# Altium integrated library Linear Technology Operational Amplifiers (LT1000).IntLib: 2280 symbols (part 66 of 79)
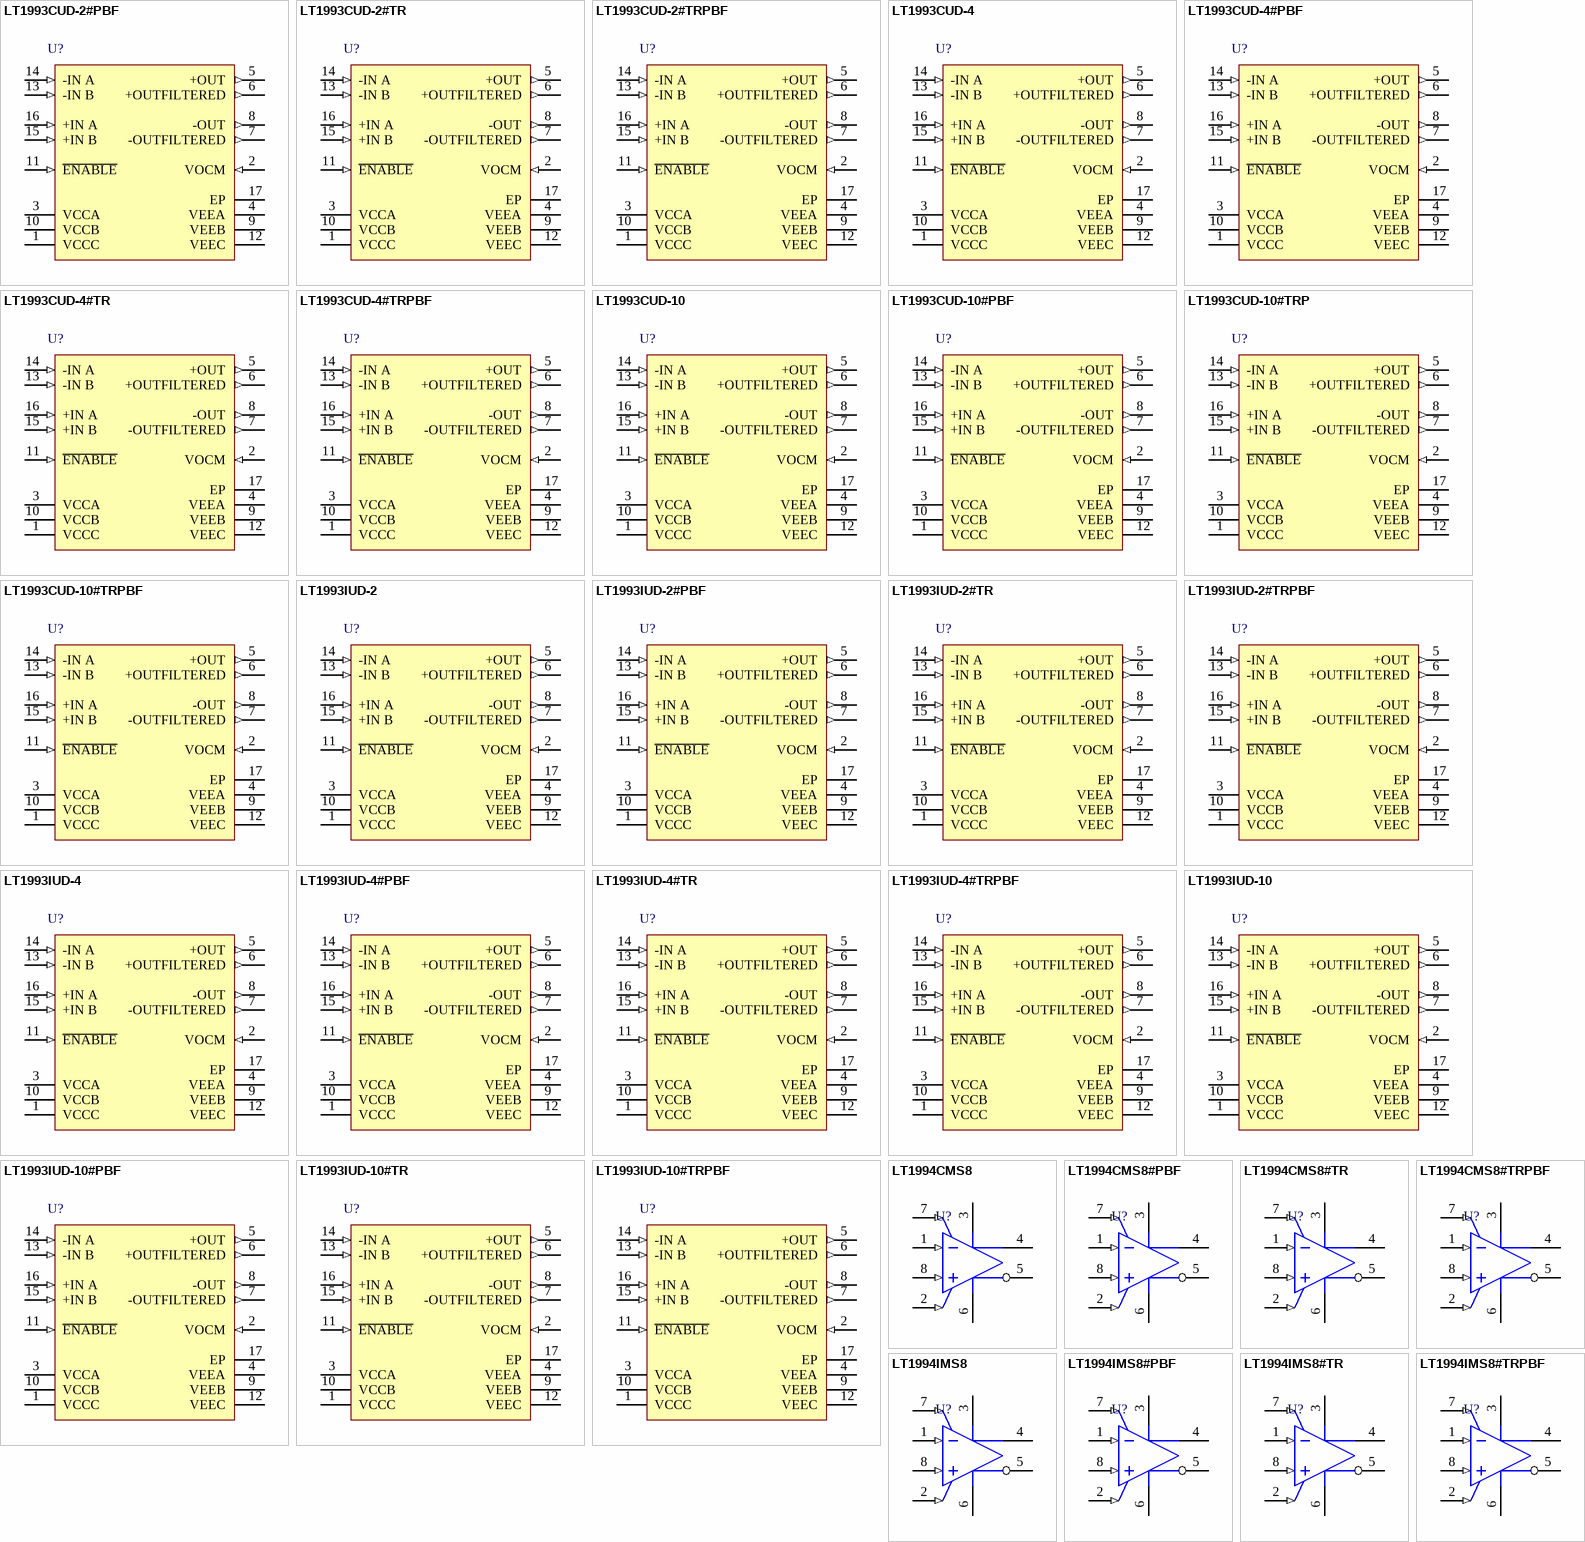
[diagram p170: symbols LT1993CUD-2#PBF to LT1994IMS8#TRPBF]

## LT1993CUD-2#TR
designator U?
Single Channel, Low Distortion, Low Noise Differential Amplifier/ADC Driver, AV = 2, 800 MHz Typical GBW, 1100 V/us Typical SR, 4 to 5.5 V, 16-Pin QFN (UD-16), Commercial, Reel; Linear Technology Part Number: LT1993-2; Manufacturer: Linear Technology; PartNumber: LT1993CUD-2#TR; Channels (#): 1; GBW (MHz) Typical: 800; Is (mA) Typical: 100; SR (V/us) Typical: 1100; Vos (mV) Guaranteed: 6.5; Vs Max (V): 5.5; Vs Min (V): 4; DatasheetVersion: Rev. B; PackageReference: LT-UD-16; PackageDescription: 16-Lead Plastic QFN, Body 3.00 x 3.00 mm, Pitch 0.5 mm; Supplier 1: Newark; Supplier Part Number 1: 57M7716; Packing: Reel; Type: DIFF; Vos (mV) Typical: 1; Mounting Technology: Surface Mount; Code_JEDEC: MO-220; ComponentLink1Description: Manufacturer URL; ComponentLink1URL: http://www.linear.com/; ComponentLink2Description: Datasheet; ComponentLink2URL: http://cds.linear.com/docs/en/datasheet/199310fb.pdf; ComponentLink3Description: Package Specification; ComponentLink3URL: http://cds.linear.com/docs/en/packaging/QFN_16_05-08-1691.pdf
footprint LT-UD-16_N (QFN, 16-Leads, Body 3x3mm, Pitch 0.5mm, Thermal Pad 1.45x1.45mm, IPC Medium Density)
footprint LT-UD-16_L (QFN, 16-Leads, Body 3x3mm, Pitch 0.5mm, Thermal Pad 1.45x1.45mm, IPC High Density)
footprint LT-UD-16_M (QFN, 16-Leads, Body 3x3mm, Pitch 0.5mm, Thermal Pad 1.45x1.45mm, IPC Low Density)
pins: 1 VCCC (power) "Positive Power Supply (Normally Tied to 5V). All three pins must be tied to the same voltage. Bypass each pin with 1000pF and 0.1uF capacitors as close to the package as possible. Split supplies are possible as long as the (See Datasheet)", 2 VOCM (in) "This pin sets the output common mode voltage. Without additional biasing, both inputs bias to this voltage as well. This input is high impedance.", 3 VCCA (power) "Positive Power Supply (Normally Tied to 5V). All three pins must be tied to the same voltage. Bypass each pin with 1000pF and 0.1uF capacitors as close to the package as possible. Split supplies are possible as long as the (See Datasheet)", 4 VEEA (power) "Negative Power Supply (Normally Tied to Ground). All three pins must be tied to the same voltage. Split supplies are possible as long as the voltage between VCC and VEE is 5V. If these pins are not tied to ground, bypass (See Datasheet)", 5 +OUT (out) "Outputs (Unfi ltered). These pins are high bandwidth, low-impedance outputs. The DC output voltage at these pins is set to the voltage applied at VOCM.", 6 +OUTFILTERED (out) "Filtered Outputs. These pins add a series 25ohm resistor from the unfi ltered outputs and three 12pF capacitors. Each output has 12pF to VEE, plus an additional 12pF between each pin (See the Block Diagram). This fi lter has (See Datasheet)", 7 -OUTFILTERED (out) "Filtered Outputs. These pins add a series 25ohm resistor from the unfi ltered outputs and three 12pF capacitors. Each output has 12pF to VEE, plus an additional 12pF between each pin (See the Block Diagram). This fi lter has (See Datasheet)", 8 -OUT (out) "Outputs (Unfi ltered). These pins are high bandwidth, low-impedance outputs. The DC output voltage at these pins is set to the voltage applied at VOCM.", 9 VEEB (power) "Negative Power Supply (Normally Tied to Ground). All three pins must be tied to the same voltage. Split supplies are possible as long as the voltage between VCC and VEE is 5V. If these pins are not tied to ground, bypass (See Datasheet)", 10 VCCB (power) "Positive Power Supply (Normally Tied to 5V). All three pins must be tied to the same voltage. Bypass each pin with 1000pF and 0.1uF capacitors as close to the package as possible. Split supplies are possible as long as the (See Datasheet)", 11 ~{ENABLE} (in) "This pin is a TTL logic input referenced to the VEEC pin. If low, the LT1993-10 is enabled and draws typically 100mA of supply current. If high, the LT1993-10 is disabled and draws typically 250uA.", 12 VEEC (power) "Negative Power Supply (Normally Tied to Ground). All three pins must be tied to the same voltage. Split supplies are possible as long as the voltage between VCC and VEE is 5V. If these pins are not tied to ground, bypass (See Datasheet)", 13 -IN B (in) "Negative Inputs. These pins are normally tied together. These inputs may be DC- or ACcoupled. If the inputs are AC-coupled, they will self-bias to the voltage applied to the VOCM pin.", 14 -IN A (in) "Negative Inputs. These pins are normally tied together. These inputs may be DC- or ACcoupled. If the inputs are AC-coupled, they will self-bias to the voltage applied to the VOCM pin.", 15 +IN B (in) "Positive Inputs. These pins are normally tied together. These inputs may be DC- or ACcoupled. If the inputs are AC-coupled, they will self-bias to the voltage applied to the VOCM pin.", 16 +IN A (in) "Positive Inputs. These pins are normally tied together. These inputs may be DC- or ACcoupled. If the inputs are AC-coupled, they will self-bias to the voltage applied to the VOCM pin.", 17 EP (power) "Tie the pad to VEEC (Pin 12). If split supplies are used, DO NOT tie the pad to ground."

## LT1993CUD-2#TRPBF
designator U?
Single Channel, Low Distortion, Low Noise Differential Amplifier/ADC Driver, AV = 2, 800 MHz Typical GBW, 1100 V/us Typical SR, 4 to 5.5 V, 16-Pin QFN (UD-16), Commercial, Pb-Free, Reel; Linear Technology Part Number: LT1993-2; Manufacturer: Linear Technology; PartNumber: LT1993CUD-2#TRPBF; Channels (#): 1; GBW (MHz) Typical: 800; Is (mA) Typical: 100; SR (V/us) Typical: 1100; Vos (mV) Guaranteed: 6.5; Vs Max (V): 5.5; Vs Min (V): 4; DatasheetVersion: Rev. B; PackageReference: LT-UD-16; PackageDescription: 16-Lead Plastic QFN, Body 3.00 x 3.00 mm, Pitch 0.5 mm; Supplier 1: Digi-Key; Supplier Part Number 1: LT1993CUD-2#TRPBF-ND; Supplier 2: Newark; Supplier Part Number 2: 57M7717; Packing: Reel; RoHS: Pb-Free; Type: DIFF; Vos (mV) Typical: 1; Mounting Technology: Surface Mount; Code_JEDEC: MO-220; ComponentLink1Description: Manufacturer URL; ComponentLink1URL: http://www.linear.com/; ComponentLink2Description: Datasheet; ComponentLink2URL: http://cds.linear.com/docs/en/datasheet/199310fb.pdf; ComponentLink3Description: Package Specification; ComponentLink3URL: http://cds.linear.com/docs/en/packaging/QFN_16_05-08-1691.pdf
footprint LT-UD-16_N (QFN, 16-Leads, Body 3x3mm, Pitch 0.5mm, Thermal Pad 1.45x1.45mm, IPC Medium Density)
footprint LT-UD-16_L (QFN, 16-Leads, Body 3x3mm, Pitch 0.5mm, Thermal Pad 1.45x1.45mm, IPC High Density)
footprint LT-UD-16_M (QFN, 16-Leads, Body 3x3mm, Pitch 0.5mm, Thermal Pad 1.45x1.45mm, IPC Low Density)
pins: 1 VCCC (power) "Positive Power Supply (Normally Tied to 5V). All three pins must be tied to the same voltage. Bypass each pin with 1000pF and 0.1uF capacitors as close to the package as possible. Split supplies are possible as long as the (See Datasheet)", 2 VOCM (in) "This pin sets the output common mode voltage. Without additional biasing, both inputs bias to this voltage as well. This input is high impedance.", 3 VCCA (power) "Positive Power Supply (Normally Tied to 5V). All three pins must be tied to the same voltage. Bypass each pin with 1000pF and 0.1uF capacitors as close to the package as possible. Split supplies are possible as long as the (See Datasheet)", 4 VEEA (power) "Negative Power Supply (Normally Tied to Ground). All three pins must be tied to the same voltage. Split supplies are possible as long as the voltage between VCC and VEE is 5V. If these pins are not tied to ground, bypass (See Datasheet)", 5 +OUT (out) "Outputs (Unfi ltered). These pins are high bandwidth, low-impedance outputs. The DC output voltage at these pins is set to the voltage applied at VOCM.", 6 +OUTFILTERED (out) "Filtered Outputs. These pins add a series 25ohm resistor from the unfi ltered outputs and three 12pF capacitors. Each output has 12pF to VEE, plus an additional 12pF between each pin (See the Block Diagram). This fi lter has (See Datasheet)", 7 -OUTFILTERED (out) "Filtered Outputs. These pins add a series 25ohm resistor from the unfi ltered outputs and three 12pF capacitors. Each output has 12pF to VEE, plus an additional 12pF between each pin (See the Block Diagram). This fi lter has (See Datasheet)", 8 -OUT (out) "Outputs (Unfi ltered). These pins are high bandwidth, low-impedance outputs. The DC output voltage at these pins is set to the voltage applied at VOCM.", 9 VEEB (power) "Negative Power Supply (Normally Tied to Ground). All three pins must be tied to the same voltage. Split supplies are possible as long as the voltage between VCC and VEE is 5V. If these pins are not tied to ground, bypass (See Datasheet)", 10 VCCB (power) "Positive Power Supply (Normally Tied to 5V). All three pins must be tied to the same voltage. Bypass each pin with 1000pF and 0.1uF capacitors as close to the package as possible. Split supplies are possible as long as the (See Datasheet)", 11 ~{ENABLE} (in) "This pin is a TTL logic input referenced to the VEEC pin. If low, the LT1993-10 is enabled and draws typically 100mA of supply current. If high, the LT1993-10 is disabled and draws typically 250uA.", 12 VEEC (power) "Negative Power Supply (Normally Tied to Ground). All three pins must be tied to the same voltage. Split supplies are possible as long as the voltage between VCC and VEE is 5V. If these pins are not tied to ground, bypass (See Datasheet)", 13 -IN B (in) "Negative Inputs. These pins are normally tied together. These inputs may be DC- or ACcoupled. If the inputs are AC-coupled, they will self-bias to the voltage applied to the VOCM pin.", 14 -IN A (in) "Negative Inputs. These pins are normally tied together. These inputs may be DC- or ACcoupled. If the inputs are AC-coupled, they will self-bias to the voltage applied to the VOCM pin.", 15 +IN B (in) "Positive Inputs. These pins are normally tied together. These inputs may be DC- or ACcoupled. If the inputs are AC-coupled, they will self-bias to the voltage applied to the VOCM pin.", 16 +IN A (in) "Positive Inputs. These pins are normally tied together. These inputs may be DC- or ACcoupled. If the inputs are AC-coupled, they will self-bias to the voltage applied to the VOCM pin.", 17 EP (power) "Tie the pad to VEEC (Pin 12). If split supplies are used, DO NOT tie the pad to ground."

## LT1993CUD-4
designator U?
Single Channel, Low Distortion, Low Noise Differential Amplifier/ADC Driver, AV = 4, 900 MHz Typical GBW, 1100 V/us Typical SR, 4 to 5.5 V, 16-Pin QFN (UD-16), Commercial; Linear Technology Part Number: LT1993-4; Manufacturer: Linear Technology; PartNumber: LT1993CUD-4; Channels (#): 1; GBW (MHz) Typical: 900; Is (mA) Typical: 100; SR (V/us) Typical: 1100; Vos (mV) Guaranteed: 6.5; Vs Max (V): 5.5; Vs Min (V): 4; DatasheetVersion: Rev. B; PackageReference: LT-UD-16; PackageDescription: 16-Lead Plastic QFN, Body 3.00 x 3.00 mm, Pitch 0.5 mm; Supplier 1: Newark; Supplier Part Number 1: 57M7718; Type: DIFF; Vos (mV) Typical: 1; Mounting Technology: Surface Mount; Code_JEDEC: MO-220; ComponentLink1Description: Manufacturer URL; ComponentLink1URL: http://www.linear.com/; ComponentLink2Description: Datasheet; ComponentLink2URL: http://cds.linear.com/docs/en/datasheet/199310fb.pdf; ComponentLink3Description: Package Specification; ComponentLink3URL: http://cds.linear.com/docs/en/packaging/QFN_16_05-08-1691.pdf
footprint LT-UD-16_N (QFN, 16-Leads, Body 3x3mm, Pitch 0.5mm, Thermal Pad 1.45x1.45mm, IPC Medium Density)
footprint LT-UD-16_L (QFN, 16-Leads, Body 3x3mm, Pitch 0.5mm, Thermal Pad 1.45x1.45mm, IPC High Density)
footprint LT-UD-16_M (QFN, 16-Leads, Body 3x3mm, Pitch 0.5mm, Thermal Pad 1.45x1.45mm, IPC Low Density)
pins: 1 VCCC (power) "Positive Power Supply (Normally Tied to 5V). All three pins must be tied to the same voltage. Bypass each pin with 1000pF and 0.1uF capacitors as close to the package as possible. Split supplies are possible as long as the (See Datasheet)", 2 VOCM (in) "This pin sets the output common mode voltage. Without additional biasing, both inputs bias to this voltage as well. This input is high impedance.", 3 VCCA (power) "Positive Power Supply (Normally Tied to 5V). All three pins must be tied to the same voltage. Bypass each pin with 1000pF and 0.1uF capacitors as close to the package as possible. Split supplies are possible as long as the (See Datasheet)", 4 VEEA (power) "Negative Power Supply (Normally Tied to Ground). All three pins must be tied to the same voltage. Split supplies are possible as long as the voltage between VCC and VEE is 5V. If these pins are not tied to ground, bypass (See Datasheet)", 5 +OUT (out) "Outputs (Unfi ltered). These pins are high bandwidth, low-impedance outputs. The DC output voltage at these pins is set to the voltage applied at VOCM.", 6 +OUTFILTERED (out) "Filtered Outputs. These pins add a series 25ohm resistor from the unfi ltered outputs and three 12pF capacitors. Each output has 12pF to VEE, plus an additional 12pF between each pin (See the Block Diagram). This fi lter has (See Datasheet)", 7 -OUTFILTERED (out) "Filtered Outputs. These pins add a series 25ohm resistor from the unfi ltered outputs and three 12pF capacitors. Each output has 12pF to VEE, plus an additional 12pF between each pin (See the Block Diagram). This fi lter has (See Datasheet)", 8 -OUT (out) "Outputs (Unfi ltered). These pins are high bandwidth, low-impedance outputs. The DC output voltage at these pins is set to the voltage applied at VOCM.", 9 VEEB (power) "Negative Power Supply (Normally Tied to Ground). All three pins must be tied to the same voltage. Split supplies are possible as long as the voltage between VCC and VEE is 5V. If these pins are not tied to ground, bypass (See Datasheet)", 10 VCCB (power) "Positive Power Supply (Normally Tied to 5V). All three pins must be tied to the same voltage. Bypass each pin with 1000pF and 0.1uF capacitors as close to the package as possible. Split supplies are possible as long as the (See Datasheet)", 11 ~{ENABLE} (in) "This pin is a TTL logic input referenced to the VEEC pin. If low, the LT1993-10 is enabled and draws typically 100mA of supply current. If high, the LT1993-10 is disabled and draws typically 250uA.", 12 VEEC (power) "Negative Power Supply (Normally Tied to Ground). All three pins must be tied to the same voltage. Split supplies are possible as long as the voltage between VCC and VEE is 5V. If these pins are not tied to ground, bypass (See Datasheet)", 13 -IN B (in) "Negative Inputs. These pins are normally tied together. These inputs may be DC- or ACcoupled. If the inputs are AC-coupled, they will self-bias to the voltage applied to the VOCM pin.", 14 -IN A (in) "Negative Inputs. These pins are normally tied together. These inputs may be DC- or ACcoupled. If the inputs are AC-coupled, they will self-bias to the voltage applied to the VOCM pin.", 15 +IN B (in) "Positive Inputs. These pins are normally tied together. These inputs may be DC- or ACcoupled. If the inputs are AC-coupled, they will self-bias to the voltage applied to the VOCM pin.", 16 +IN A (in) "Positive Inputs. These pins are normally tied together. These inputs may be DC- or ACcoupled. If the inputs are AC-coupled, they will self-bias to the voltage applied to the VOCM pin.", 17 EP (power) "Tie the pad to VEEC (Pin 12). If split supplies are used, DO NOT tie the pad to ground."

## LT1993CUD-4#PBF
designator U?
Single Channel, Low Distortion, Low Noise Differential Amplifier/ADC Driver, AV = 4, 900 MHz Typical GBW, 1100 V/us Typical SR, 4 to 5.5 V, 16-Pin QFN (UD-16), Commercial, Pb-Free; Linear Technology Part Number: LT1993-4; Manufacturer: Linear Technology; PartNumber: LT1993CUD-4#PBF; Channels (#): 1; GBW (MHz) Typical: 900; Is (mA) Typical: 100; SR (V/us) Typical: 1100; Vos (mV) Guaranteed: 6.5; Vs Max (V): 5.5; Vs Min (V): 4; DatasheetVersion: Rev. B; PackageReference: LT-UD-16; PackageDescription: 16-Lead Plastic QFN, Body 3.00 x 3.00 mm, Pitch 0.5 mm; Supplier 1: Digi-Key; Supplier Part Number 1: LT1993CUD-4#PBF-ND; Supplier 2: Newark; Supplier Part Number 2: 57M7719; RoHS: Pb-Free; Type: DIFF; Vos (mV) Typical: 1; Mounting Technology: Surface Mount; Code_JEDEC: MO-220; ComponentLink1Description: Manufacturer URL; ComponentLink1URL: http://www.linear.com/; ComponentLink2Description: Datasheet; ComponentLink2URL: http://cds.linear.com/docs/en/datasheet/199310fb.pdf; ComponentLink3Description: Package Specification; ComponentLink3URL: http://cds.linear.com/docs/en/packaging/QFN_16_05-08-1691.pdf
footprint LT-UD-16_N (QFN, 16-Leads, Body 3x3mm, Pitch 0.5mm, Thermal Pad 1.45x1.45mm, IPC Medium Density)
footprint LT-UD-16_L (QFN, 16-Leads, Body 3x3mm, Pitch 0.5mm, Thermal Pad 1.45x1.45mm, IPC High Density)
footprint LT-UD-16_M (QFN, 16-Leads, Body 3x3mm, Pitch 0.5mm, Thermal Pad 1.45x1.45mm, IPC Low Density)
pins: 1 VCCC (power) "Positive Power Supply (Normally Tied to 5V). All three pins must be tied to the same voltage. Bypass each pin with 1000pF and 0.1uF capacitors as close to the package as possible. Split supplies are possible as long as the (See Datasheet)", 2 VOCM (in) "This pin sets the output common mode voltage. Without additional biasing, both inputs bias to this voltage as well. This input is high impedance.", 3 VCCA (power) "Positive Power Supply (Normally Tied to 5V). All three pins must be tied to the same voltage. Bypass each pin with 1000pF and 0.1uF capacitors as close to the package as possible. Split supplies are possible as long as the (See Datasheet)", 4 VEEA (power) "Negative Power Supply (Normally Tied to Ground). All three pins must be tied to the same voltage. Split supplies are possible as long as the voltage between VCC and VEE is 5V. If these pins are not tied to ground, bypass (See Datasheet)", 5 +OUT (out) "Outputs (Unfi ltered). These pins are high bandwidth, low-impedance outputs. The DC output voltage at these pins is set to the voltage applied at VOCM.", 6 +OUTFILTERED (out) "Filtered Outputs. These pins add a series 25ohm resistor from the unfi ltered outputs and three 12pF capacitors. Each output has 12pF to VEE, plus an additional 12pF between each pin (See the Block Diagram). This fi lter has (See Datasheet)", 7 -OUTFILTERED (out) "Filtered Outputs. These pins add a series 25ohm resistor from the unfi ltered outputs and three 12pF capacitors. Each output has 12pF to VEE, plus an additional 12pF between each pin (See the Block Diagram). This fi lter has (See Datasheet)", 8 -OUT (out) "Outputs (Unfi ltered). These pins are high bandwidth, low-impedance outputs. The DC output voltage at these pins is set to the voltage applied at VOCM.", 9 VEEB (power) "Negative Power Supply (Normally Tied to Ground). All three pins must be tied to the same voltage. Split supplies are possible as long as the voltage between VCC and VEE is 5V. If these pins are not tied to ground, bypass (See Datasheet)", 10 VCCB (power) "Positive Power Supply (Normally Tied to 5V). All three pins must be tied to the same voltage. Bypass each pin with 1000pF and 0.1uF capacitors as close to the package as possible. Split supplies are possible as long as the (See Datasheet)", 11 ~{ENABLE} (in) "This pin is a TTL logic input referenced to the VEEC pin. If low, the LT1993-10 is enabled and draws typically 100mA of supply current. If high, the LT1993-10 is disabled and draws typically 250uA.", 12 VEEC (power) "Negative Power Supply (Normally Tied to Ground). All three pins must be tied to the same voltage. Split supplies are possible as long as the voltage between VCC and VEE is 5V. If these pins are not tied to ground, bypass (See Datasheet)", 13 -IN B (in) "Negative Inputs. These pins are normally tied together. These inputs may be DC- or ACcoupled. If the inputs are AC-coupled, they will self-bias to the voltage applied to the VOCM pin.", 14 -IN A (in) "Negative Inputs. These pins are normally tied together. These inputs may be DC- or ACcoupled. If the inputs are AC-coupled, they will self-bias to the voltage applied to the VOCM pin.", 15 +IN B (in) "Positive Inputs. These pins are normally tied together. These inputs may be DC- or ACcoupled. If the inputs are AC-coupled, they will self-bias to the voltage applied to the VOCM pin.", 16 +IN A (in) "Positive Inputs. These pins are normally tied together. These inputs may be DC- or ACcoupled. If the inputs are AC-coupled, they will self-bias to the voltage applied to the VOCM pin.", 17 EP (power) "Tie the pad to VEEC (Pin 12). If split supplies are used, DO NOT tie the pad to ground."

## LT1993CUD-4#TR
designator U?
Single Channel, Low Distortion, Low Noise Differential Amplifier/ADC Driver, AV = 4, 900 MHz Typical GBW, 1100 V/us Typical SR, 4 to 5.5 V, 16-Pin QFN (UD-16), Commercial, Reel; Linear Technology Part Number: LT1993-4; Manufacturer: Linear Technology; PartNumber: LT1993CUD-4#TR; Channels (#): 1; GBW (MHz) Typical: 900; Is (mA) Typical: 100; SR (V/us) Typical: 1100; Vos (mV) Guaranteed: 6.5; Vs Max (V): 5.5; Vs Min (V): 4; DatasheetVersion: Rev. B; PackageReference: LT-UD-16; PackageDescription: 16-Lead Plastic QFN, Body 3.00 x 3.00 mm, Pitch 0.5 mm; Supplier 1: Newark; Supplier Part Number 1: 57M7720; Packing: Reel; Type: DIFF; Vos (mV) Typical: 1; Mounting Technology: Surface Mount; Code_JEDEC: MO-220; ComponentLink1Description: Manufacturer URL; ComponentLink1URL: http://www.linear.com/; ComponentLink2Description: Datasheet; ComponentLink2URL: http://cds.linear.com/docs/en/datasheet/199310fb.pdf; ComponentLink3Description: Package Specification; ComponentLink3URL: http://cds.linear.com/docs/en/packaging/QFN_16_05-08-1691.pdf
footprint LT-UD-16_N (QFN, 16-Leads, Body 3x3mm, Pitch 0.5mm, Thermal Pad 1.45x1.45mm, IPC Medium Density)
footprint LT-UD-16_L (QFN, 16-Leads, Body 3x3mm, Pitch 0.5mm, Thermal Pad 1.45x1.45mm, IPC High Density)
footprint LT-UD-16_M (QFN, 16-Leads, Body 3x3mm, Pitch 0.5mm, Thermal Pad 1.45x1.45mm, IPC Low Density)
pins: 1 VCCC (power) "Positive Power Supply (Normally Tied to 5V). All three pins must be tied to the same voltage. Bypass each pin with 1000pF and 0.1uF capacitors as close to the package as possible. Split supplies are possible as long as the (See Datasheet)", 2 VOCM (in) "This pin sets the output common mode voltage. Without additional biasing, both inputs bias to this voltage as well. This input is high impedance.", 3 VCCA (power) "Positive Power Supply (Normally Tied to 5V). All three pins must be tied to the same voltage. Bypass each pin with 1000pF and 0.1uF capacitors as close to the package as possible. Split supplies are possible as long as the (See Datasheet)", 4 VEEA (power) "Negative Power Supply (Normally Tied to Ground). All three pins must be tied to the same voltage. Split supplies are possible as long as the voltage between VCC and VEE is 5V. If these pins are not tied to ground, bypass (See Datasheet)", 5 +OUT (out) "Outputs (Unfi ltered). These pins are high bandwidth, low-impedance outputs. The DC output voltage at these pins is set to the voltage applied at VOCM.", 6 +OUTFILTERED (out) "Filtered Outputs. These pins add a series 25ohm resistor from the unfi ltered outputs and three 12pF capacitors. Each output has 12pF to VEE, plus an additional 12pF between each pin (See the Block Diagram). This fi lter has (See Datasheet)", 7 -OUTFILTERED (out) "Filtered Outputs. These pins add a series 25ohm resistor from the unfi ltered outputs and three 12pF capacitors. Each output has 12pF to VEE, plus an additional 12pF between each pin (See the Block Diagram). This fi lter has (See Datasheet)", 8 -OUT (out) "Outputs (Unfi ltered). These pins are high bandwidth, low-impedance outputs. The DC output voltage at these pins is set to the voltage applied at VOCM.", 9 VEEB (power) "Negative Power Supply (Normally Tied to Ground). All three pins must be tied to the same voltage. Split supplies are possible as long as the voltage between VCC and VEE is 5V. If these pins are not tied to ground, bypass (See Datasheet)", 10 VCCB (power) "Positive Power Supply (Normally Tied to 5V). All three pins must be tied to the same voltage. Bypass each pin with 1000pF and 0.1uF capacitors as close to the package as possible. Split supplies are possible as long as the (See Datasheet)", 11 ~{ENABLE} (in) "This pin is a TTL logic input referenced to the VEEC pin. If low, the LT1993-10 is enabled and draws typically 100mA of supply current. If high, the LT1993-10 is disabled and draws typically 250uA.", 12 VEEC (power) "Negative Power Supply (Normally Tied to Ground). All three pins must be tied to the same voltage. Split supplies are possible as long as the voltage between VCC and VEE is 5V. If these pins are not tied to ground, bypass (See Datasheet)", 13 -IN B (in) "Negative Inputs. These pins are normally tied together. These inputs may be DC- or ACcoupled. If the inputs are AC-coupled, they will self-bias to the voltage applied to the VOCM pin.", 14 -IN A (in) "Negative Inputs. These pins are normally tied together. These inputs may be DC- or ACcoupled. If the inputs are AC-coupled, they will self-bias to the voltage applied to the VOCM pin.", 15 +IN B (in) "Positive Inputs. These pins are normally tied together. These inputs may be DC- or ACcoupled. If the inputs are AC-coupled, they will self-bias to the voltage applied to the VOCM pin.", 16 +IN A (in) "Positive Inputs. These pins are normally tied together. These inputs may be DC- or ACcoupled. If the inputs are AC-coupled, they will self-bias to the voltage applied to the VOCM pin.", 17 EP (power) "Tie the pad to VEEC (Pin 12). If split supplies are used, DO NOT tie the pad to ground."

## LT1993CUD-4#TRPBF
designator U?
Single Channel, Low Distortion, Low Noise Differential Amplifier/ADC Driver, AV = 4, 900 MHz Typical GBW, 1100 V/us Typical SR, 4 to 5.5 V, 16-Pin QFN (UD-16), Commercial, Pb-Free, Reel; Linear Technology Part Number: LT1993-4; Manufacturer: Linear Technology; PartNumber: LT1993CUD-4#TRPBF; Channels (#): 1; GBW (MHz) Typical: 900; Is (mA) Typical: 100; SR (V/us) Typical: 1100; Vos (mV) Guaranteed: 6.5; Vs Max (V): 5.5; Vs Min (V): 4; DatasheetVersion: Rev. B; PackageReference: LT-UD-16; PackageDescription: 16-Lead Plastic QFN, Body 3.00 x 3.00 mm, Pitch 0.5 mm; Supplier 1: Digi-Key; Supplier Part Number 1: LT1993CUD-4#TRPBF-ND; Supplier 2: Newark; Supplier Part Number 2: 57M7721; Packing: Reel; RoHS: Pb-Free; Type: DIFF; Vos (mV) Typical: 1; Mounting Technology: Surface Mount; Code_JEDEC: MO-220; ComponentLink1Description: Manufacturer URL; ComponentLink1URL: http://www.linear.com/; ComponentLink2Description: Datasheet; ComponentLink2URL: http://cds.linear.com/docs/en/datasheet/199310fb.pdf; ComponentLink3Description: Package Specification; ComponentLink3URL: http://cds.linear.com/docs/en/packaging/QFN_16_05-08-1691.pdf
footprint LT-UD-16_N (QFN, 16-Leads, Body 3x3mm, Pitch 0.5mm, Thermal Pad 1.45x1.45mm, IPC Medium Density)
footprint LT-UD-16_L (QFN, 16-Leads, Body 3x3mm, Pitch 0.5mm, Thermal Pad 1.45x1.45mm, IPC High Density)
footprint LT-UD-16_M (QFN, 16-Leads, Body 3x3mm, Pitch 0.5mm, Thermal Pad 1.45x1.45mm, IPC Low Density)
pins: 1 VCCC (power) "Positive Power Supply (Normally Tied to 5V). All three pins must be tied to the same voltage. Bypass each pin with 1000pF and 0.1uF capacitors as close to the package as possible. Split supplies are possible as long as the (See Datasheet)", 2 VOCM (in) "This pin sets the output common mode voltage. Without additional biasing, both inputs bias to this voltage as well. This input is high impedance.", 3 VCCA (power) "Positive Power Supply (Normally Tied to 5V). All three pins must be tied to the same voltage. Bypass each pin with 1000pF and 0.1uF capacitors as close to the package as possible. Split supplies are possible as long as the (See Datasheet)", 4 VEEA (power) "Negative Power Supply (Normally Tied to Ground). All three pins must be tied to the same voltage. Split supplies are possible as long as the voltage between VCC and VEE is 5V. If these pins are not tied to ground, bypass (See Datasheet)", 5 +OUT (out) "Outputs (Unfi ltered). These pins are high bandwidth, low-impedance outputs. The DC output voltage at these pins is set to the voltage applied at VOCM.", 6 +OUTFILTERED (out) "Filtered Outputs. These pins add a series 25ohm resistor from the unfi ltered outputs and three 12pF capacitors. Each output has 12pF to VEE, plus an additional 12pF between each pin (See the Block Diagram). This fi lter has (See Datasheet)", 7 -OUTFILTERED (out) "Filtered Outputs. These pins add a series 25ohm resistor from the unfi ltered outputs and three 12pF capacitors. Each output has 12pF to VEE, plus an additional 12pF between each pin (See the Block Diagram). This fi lter has (See Datasheet)", 8 -OUT (out) "Outputs (Unfi ltered). These pins are high bandwidth, low-impedance outputs. The DC output voltage at these pins is set to the voltage applied at VOCM.", 9 VEEB (power) "Negative Power Supply (Normally Tied to Ground). All three pins must be tied to the same voltage. Split supplies are possible as long as the voltage between VCC and VEE is 5V. If these pins are not tied to ground, bypass (See Datasheet)", 10 VCCB (power) "Positive Power Supply (Normally Tied to 5V). All three pins must be tied to the same voltage. Bypass each pin with 1000pF and 0.1uF capacitors as close to the package as possible. Split supplies are possible as long as the (See Datasheet)", 11 ~{ENABLE} (in) "This pin is a TTL logic input referenced to the VEEC pin. If low, the LT1993-10 is enabled and draws typically 100mA of supply current. If high, the LT1993-10 is disabled and draws typically 250uA.", 12 VEEC (power) "Negative Power Supply (Normally Tied to Ground). All three pins must be tied to the same voltage. Split supplies are possible as long as the voltage between VCC and VEE is 5V. If these pins are not tied to ground, bypass (See Datasheet)", 13 -IN B (in) "Negative Inputs. These pins are normally tied together. These inputs may be DC- or ACcoupled. If the inputs are AC-coupled, they will self-bias to the voltage applied to the VOCM pin.", 14 -IN A (in) "Negative Inputs. These pins are normally tied together. These inputs may be DC- or ACcoupled. If the inputs are AC-coupled, they will self-bias to the voltage applied to the VOCM pin.", 15 +IN B (in) "Positive Inputs. These pins are normally tied together. These inputs may be DC- or ACcoupled. If the inputs are AC-coupled, they will self-bias to the voltage applied to the VOCM pin.", 16 +IN A (in) "Positive Inputs. These pins are normally tied together. These inputs may be DC- or ACcoupled. If the inputs are AC-coupled, they will self-bias to the voltage applied to the VOCM pin.", 17 EP (power) "Tie the pad to VEEC (Pin 12). If split supplies are used, DO NOT tie the pad to ground."

## LT1993CUD-10
designator U?
Single Channel, Low Distortion, Low Noise Differential Amplifier/ADC Driver, Av = 10, 700 MHz Typical GBW, 1100 V/us Typical SR, 4 to 5.5 V, 16-Pin QFN (UD-16), Commercial; Linear Technology Part Number: LT1993-10; Manufacturer: Linear Technology; PartNumber: LT1993CUD-10; Channels (#): 1; GBW (MHz) Typical: 700; Is (mA) Typical: 100; SR (V/us) Typical: 1100; Vos (mV) Guaranteed: 6.5; Vs Max (V): 5.5; Vs Min (V): 4; DatasheetVersion: Rev. B; PackageReference: LT-UD-16; PackageDescription: 16-Lead Plastic QFN, Body 3.00 x 3.00 mm, Pitch 0.5 mm; Supplier 1: Newark; Supplier Part Number 1: 57M7710; Type: DIFF; Vos (mV) Typical: 1; Mounting Technology: Surface Mount; Code_JEDEC: MO-220; ComponentLink1Description: Manufacturer URL; ComponentLink1URL: http://www.linear.com/; ComponentLink2Description: Datasheet; ComponentLink2URL: http://cds.linear.com/docs/en/datasheet/199310fb.pdf; ComponentLink3Description: Package Specification; ComponentLink3URL: http://cds.linear.com/docs/en/packaging/QFN_16_05-08-1691.pdf
footprint LT-UD-16_N (QFN, 16-Leads, Body 3x3mm, Pitch 0.5mm, Thermal Pad 1.45x1.45mm, IPC Medium Density)
footprint LT-UD-16_L (QFN, 16-Leads, Body 3x3mm, Pitch 0.5mm, Thermal Pad 1.45x1.45mm, IPC High Density)
footprint LT-UD-16_M (QFN, 16-Leads, Body 3x3mm, Pitch 0.5mm, Thermal Pad 1.45x1.45mm, IPC Low Density)
pins: 1 VCCC (power) "Positive Power Supply (Normally Tied to 5V). All three pins must be tied to the same voltage. Bypass each pin with 1000pF and 0.1uF capacitors as close to the package as possible. Split supplies are possible as long as the (See Datasheet)", 2 VOCM (in) "This pin sets the output common mode voltage. Without additional biasing, both inputs bias to this voltage as well. This input is high impedance.", 3 VCCA (power) "Positive Power Supply (Normally Tied to 5V). All three pins must be tied to the same voltage. Bypass each pin with 1000pF and 0.1uF capacitors as close to the package as possible. Split supplies are possible as long as the (See Datasheet)", 4 VEEA (power) "Negative Power Supply (Normally Tied to Ground). All three pins must be tied to the same voltage. Split supplies are possible as long as the voltage between VCC and VEE is 5V. If these pins are not tied to ground, bypass (See Datasheet)", 5 +OUT (out) "Outputs (Unfi ltered). These pins are high bandwidth, low-impedance outputs. The DC output voltage at these pins is set to the voltage applied at VOCM.", 6 +OUTFILTERED (out) "Filtered Outputs. These pins add a series 25ohm resistor from the unfi ltered outputs and three 12pF capacitors. Each output has 12pF to VEE, plus an additional 12pF between each pin (See the Block Diagram). This fi lter has (See Datasheet)", 7 -OUTFILTERED (out) "Filtered Outputs. These pins add a series 25ohm resistor from the unfi ltered outputs and three 12pF capacitors. Each output has 12pF to VEE, plus an additional 12pF between each pin (See the Block Diagram). This fi lter has (See Datasheet)", 8 -OUT (out) "Outputs (Unfi ltered). These pins are high bandwidth, low-impedance outputs. The DC output voltage at these pins is set to the voltage applied at VOCM.", 9 VEEB (power) "Negative Power Supply (Normally Tied to Ground). All three pins must be tied to the same voltage. Split supplies are possible as long as the voltage between VCC and VEE is 5V. If these pins are not tied to ground, bypass (See Datasheet)", 10 VCCB (power) "Positive Power Supply (Normally Tied to 5V). All three pins must be tied to the same voltage. Bypass each pin with 1000pF and 0.1uF capacitors as close to the package as possible. Split supplies are possible as long as the (See Datasheet)", 11 ~{ENABLE} (in) "This pin is a TTL logic input referenced to the VEEC pin. If low, the LT1993-10 is enabled and draws typically 100mA of supply current. If high, the LT1993-10 is disabled and draws typically 250uA.", 12 VEEC (power) "Negative Power Supply (Normally Tied to Ground). All three pins must be tied to the same voltage. Split supplies are possible as long as the voltage between VCC and VEE is 5V. If these pins are not tied to ground, bypass (See Datasheet)", 13 -IN B (in) "Negative Inputs. These pins are normally tied together. These inputs may be DC- or ACcoupled. If the inputs are AC-coupled, they will self-bias to the voltage applied to the VOCM pin.", 14 -IN A (in) "Negative Inputs. These pins are normally tied together. These inputs may be DC- or ACcoupled. If the inputs are AC-coupled, they will self-bias to the voltage applied to the VOCM pin.", 15 +IN B (in) "Positive Inputs. These pins are normally tied together. These inputs may be DC- or ACcoupled. If the inputs are AC-coupled, they will self-bias to the voltage applied to the VOCM pin.", 16 +IN A (in) "Positive Inputs. These pins are normally tied together. These inputs may be DC- or ACcoupled. If the inputs are AC-coupled, they will self-bias to the voltage applied to the VOCM pin.", 17 EP (power) "Tie the pad to VEEC (Pin 12). If split supplies are used, DO NOT tie the pad to ground."

## LT1993CUD-10#PBF
designator U?
Single Channel, Low Distortion, Low Noise Differential Amplifier/ADC Driver, Av = 10, 700 MHz Typical GBW, 1100 V/us Typical SR, 4 to 5.5 V, 16-Pin QFN (UD-16), Commercial, Pb-Free; Linear Technology Part Number: LT1993-10; Manufacturer: Linear Technology; PartNumber: LT1993CUD-10#PBF; Channels (#): 1; GBW (MHz) Typical: 700; Is (mA) Typical: 100; SR (V/us) Typical: 1100; Vos (mV) Guaranteed: 6.5; Vs Max (V): 5.5; Vs Min (V): 4; DatasheetVersion: Rev. B; PackageReference: LT-UD-16; PackageDescription: 16-Lead Plastic QFN, Body 3.00 x 3.00 mm, Pitch 0.5 mm; Supplier 1: Digi-Key; Supplier Part Number 1: LT1993CUD-10#PBF-ND; Supplier 2: Newark; Supplier Part Number 2: 57M7711; RoHS: Pb-Free; Type: DIFF; Vos (mV) Typical: 1; Mounting Technology: Surface Mount; Code_JEDEC: MO-220; ComponentLink1Description: Manufacturer URL; ComponentLink1URL: http://www.linear.com/; ComponentLink2Description: Datasheet; ComponentLink2URL: http://cds.linear.com/docs/en/datasheet/199310fb.pdf; ComponentLink3Description: Package Specification; ComponentLink3URL: http://cds.linear.com/docs/en/packaging/QFN_16_05-08-1691.pdf
footprint LT-UD-16_N (QFN, 16-Leads, Body 3x3mm, Pitch 0.5mm, Thermal Pad 1.45x1.45mm, IPC Medium Density)
footprint LT-UD-16_L (QFN, 16-Leads, Body 3x3mm, Pitch 0.5mm, Thermal Pad 1.45x1.45mm, IPC High Density)
footprint LT-UD-16_M (QFN, 16-Leads, Body 3x3mm, Pitch 0.5mm, Thermal Pad 1.45x1.45mm, IPC Low Density)
pins: 1 VCCC (power) "Positive Power Supply (Normally Tied to 5V). All three pins must be tied to the same voltage. Bypass each pin with 1000pF and 0.1uF capacitors as close to the package as possible. Split supplies are possible as long as the (See Datasheet)", 2 VOCM (in) "This pin sets the output common mode voltage. Without additional biasing, both inputs bias to this voltage as well. This input is high impedance.", 3 VCCA (power) "Positive Power Supply (Normally Tied to 5V). All three pins must be tied to the same voltage. Bypass each pin with 1000pF and 0.1uF capacitors as close to the package as possible. Split supplies are possible as long as the (See Datasheet)", 4 VEEA (power) "Negative Power Supply (Normally Tied to Ground). All three pins must be tied to the same voltage. Split supplies are possible as long as the voltage between VCC and VEE is 5V. If these pins are not tied to ground, bypass (See Datasheet)", 5 +OUT (out) "Outputs (Unfi ltered). These pins are high bandwidth, low-impedance outputs. The DC output voltage at these pins is set to the voltage applied at VOCM.", 6 +OUTFILTERED (out) "Filtered Outputs. These pins add a series 25ohm resistor from the unfi ltered outputs and three 12pF capacitors. Each output has 12pF to VEE, plus an additional 12pF between each pin (See the Block Diagram). This fi lter has (See Datasheet)", 7 -OUTFILTERED (out) "Filtered Outputs. These pins add a series 25ohm resistor from the unfi ltered outputs and three 12pF capacitors. Each output has 12pF to VEE, plus an additional 12pF between each pin (See the Block Diagram). This fi lter has (See Datasheet)", 8 -OUT (out) "Outputs (Unfi ltered). These pins are high bandwidth, low-impedance outputs. The DC output voltage at these pins is set to the voltage applied at VOCM.", 9 VEEB (power) "Negative Power Supply (Normally Tied to Ground). All three pins must be tied to the same voltage. Split supplies are possible as long as the voltage between VCC and VEE is 5V. If these pins are not tied to ground, bypass (See Datasheet)", 10 VCCB (power) "Positive Power Supply (Normally Tied to 5V). All three pins must be tied to the same voltage. Bypass each pin with 1000pF and 0.1uF capacitors as close to the package as possible. Split supplies are possible as long as the (See Datasheet)", 11 ~{ENABLE} (in) "This pin is a TTL logic input referenced to the VEEC pin. If low, the LT1993-10 is enabled and draws typically 100mA of supply current. If high, the LT1993-10 is disabled and draws typically 250uA.", 12 VEEC (power) "Negative Power Supply (Normally Tied to Ground). All three pins must be tied to the same voltage. Split supplies are possible as long as the voltage between VCC and VEE is 5V. If these pins are not tied to ground, bypass (See Datasheet)", 13 -IN B (in) "Negative Inputs. These pins are normally tied together. These inputs may be DC- or ACcoupled. If the inputs are AC-coupled, they will self-bias to the voltage applied to the VOCM pin.", 14 -IN A (in) "Negative Inputs. These pins are normally tied together. These inputs may be DC- or ACcoupled. If the inputs are AC-coupled, they will self-bias to the voltage applied to the VOCM pin.", 15 +IN B (in) "Positive Inputs. These pins are normally tied together. These inputs may be DC- or ACcoupled. If the inputs are AC-coupled, they will self-bias to the voltage applied to the VOCM pin.", 16 +IN A (in) "Positive Inputs. These pins are normally tied together. These inputs may be DC- or ACcoupled. If the inputs are AC-coupled, they will self-bias to the voltage applied to the VOCM pin.", 17 EP (power) "Tie the pad to VEEC (Pin 12). If split supplies are used, DO NOT tie the pad to ground."

## LT1993CUD-10#TRP
designator U?
Single Channel, Low Distortion, Low Noise Differential Amplifier/ADC Driver, Av = 10, 700 MHz Typical GBW, 1100 V/us Typical SR, 4 to 5.5 V, 16-Pin QFN (UD-16), Commercial, Reel; Linear Technology Part Number: LT1993-10; Manufacturer: Linear Technology; PartNumber: LT1993CUD-10#TRP; Channels (#): 1; GBW (MHz) Typical: 700; Is (mA) Typical: 100; SR (V/us) Typical: 1100; Vos (mV) Guaranteed: 6.5; Vs Max (V): 5.5; Vs Min (V): 4; DatasheetVersion: Rev. B; PackageReference: LT-UD-16; PackageDescription: 16-Lead Plastic QFN, Body 3.00 x 3.00 mm, Pitch 0.5 mm; Packing: Reel; Type: DIFF; Vos (mV) Typical: 1; Mounting Technology: Surface Mount; Code_JEDEC: MO-220; ComponentLink1Description: Manufacturer URL; ComponentLink1URL: http://www.linear.com/; ComponentLink2Description: Datasheet; ComponentLink2URL: http://cds.linear.com/docs/en/datasheet/199310fb.pdf; ComponentLink3Description: Package Specification; ComponentLink3URL: http://cds.linear.com/docs/en/packaging/QFN_16_05-08-1691.pdf
footprint LT-UD-16_N (QFN, 16-Leads, Body 3x3mm, Pitch 0.5mm, Thermal Pad 1.45x1.45mm, IPC Medium Density)
footprint LT-UD-16_L (QFN, 16-Leads, Body 3x3mm, Pitch 0.5mm, Thermal Pad 1.45x1.45mm, IPC High Density)
footprint LT-UD-16_M (QFN, 16-Leads, Body 3x3mm, Pitch 0.5mm, Thermal Pad 1.45x1.45mm, IPC Low Density)
pins: 1 VCCC (power) "Positive Power Supply (Normally Tied to 5V). All three pins must be tied to the same voltage. Bypass each pin with 1000pF and 0.1uF capacitors as close to the package as possible. Split supplies are possible as long as the (See Datasheet)", 2 VOCM (in) "This pin sets the output common mode voltage. Without additional biasing, both inputs bias to this voltage as well. This input is high impedance.", 3 VCCA (power) "Positive Power Supply (Normally Tied to 5V). All three pins must be tied to the same voltage. Bypass each pin with 1000pF and 0.1uF capacitors as close to the package as possible. Split supplies are possible as long as the (See Datasheet)", 4 VEEA (power) "Negative Power Supply (Normally Tied to Ground). All three pins must be tied to the same voltage. Split supplies are possible as long as the voltage between VCC and VEE is 5V. If these pins are not tied to ground, bypass (See Datasheet)", 5 +OUT (out) "Outputs (Unfi ltered). These pins are high bandwidth, low-impedance outputs. The DC output voltage at these pins is set to the voltage applied at VOCM.", 6 +OUTFILTERED (out) "Filtered Outputs. These pins add a series 25ohm resistor from the unfi ltered outputs and three 12pF capacitors. Each output has 12pF to VEE, plus an additional 12pF between each pin (See the Block Diagram). This fi lter has (See Datasheet)", 7 -OUTFILTERED (out) "Filtered Outputs. These pins add a series 25ohm resistor from the unfi ltered outputs and three 12pF capacitors. Each output has 12pF to VEE, plus an additional 12pF between each pin (See the Block Diagram). This fi lter has (See Datasheet)", 8 -OUT (out) "Outputs (Unfi ltered). These pins are high bandwidth, low-impedance outputs. The DC output voltage at these pins is set to the voltage applied at VOCM.", 9 VEEB (power) "Negative Power Supply (Normally Tied to Ground). All three pins must be tied to the same voltage. Split supplies are possible as long as the voltage between VCC and VEE is 5V. If these pins are not tied to ground, bypass (See Datasheet)", 10 VCCB (power) "Positive Power Supply (Normally Tied to 5V). All three pins must be tied to the same voltage. Bypass each pin with 1000pF and 0.1uF capacitors as close to the package as possible. Split supplies are possible as long as the (See Datasheet)", 11 ~{ENABLE} (in) "This pin is a TTL logic input referenced to the VEEC pin. If low, the LT1993-10 is enabled and draws typically 100mA of supply current. If high, the LT1993-10 is disabled and draws typically 250uA.", 12 VEEC (power) "Negative Power Supply (Normally Tied to Ground). All three pins must be tied to the same voltage. Split supplies are possible as long as the voltage between VCC and VEE is 5V. If these pins are not tied to ground, bypass (See Datasheet)", 13 -IN B (in) "Negative Inputs. These pins are normally tied together. These inputs may be DC- or ACcoupled. If the inputs are AC-coupled, they will self-bias to the voltage applied to the VOCM pin.", 14 -IN A (in) "Negative Inputs. These pins are normally tied together. These inputs may be DC- or ACcoupled. If the inputs are AC-coupled, they will self-bias to the voltage applied to the VOCM pin.", 15 +IN B (in) "Positive Inputs. These pins are normally tied together. These inputs may be DC- or ACcoupled. If the inputs are AC-coupled, they will self-bias to the voltage applied to the VOCM pin.", 16 +IN A (in) "Positive Inputs. These pins are normally tied together. These inputs may be DC- or ACcoupled. If the inputs are AC-coupled, they will self-bias to the voltage applied to the VOCM pin.", 17 EP (power) "Tie the pad to VEEC (Pin 12). If split supplies are used, DO NOT tie the pad to ground."